# Altium schematic symbol library test.SchLib: 2 symbols
Pins are listed as number, name and electrical type; pins without a type are passive.

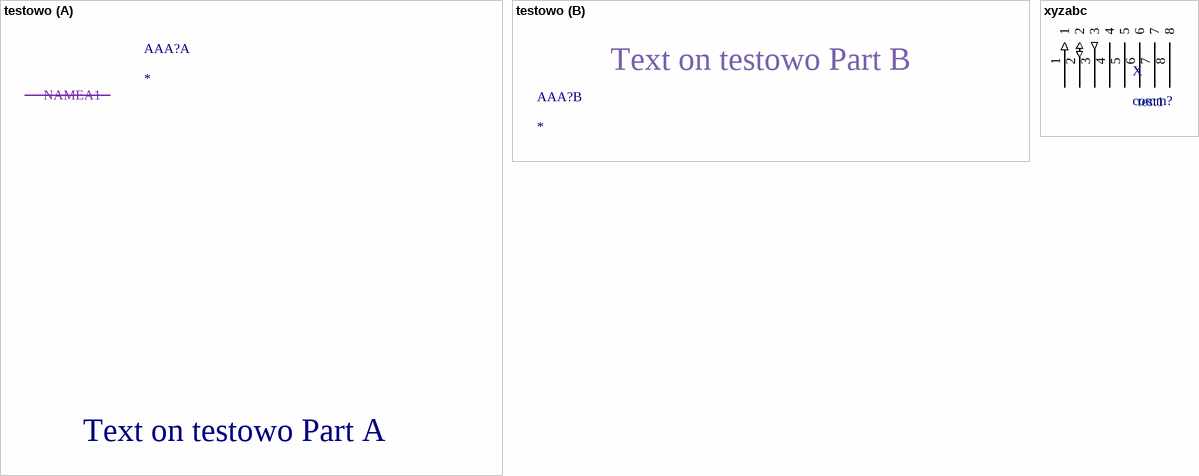
[diagram p0: symbols testowo to xyzabc]

## testowo
designator AAA?
part A pins: A1 NAMEA1 "Testowy opis"
part B pins: 3 AAA2 (out) hidden "pis2"
part A text: Text on testowo Part A
part B text: Text on testowo Part B

## xyzabc
designator X, comment comm?  SCH_ABC: test1
pins: 1 (in), 2 (io), 3 (out), 4 (oc), 5, 6 (hiz), 7 (oe), 8 (power)
1 alternate drawing of the same symbol